# Altium schematic symbol library HDR_1X3_BB.SchLib: 1 symbol
Pins are listed as number, name and electrical type; pins without a type are passive.

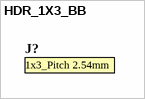
[diagram p0: symbol HDR_1X3_BB]

## HDR_1X3_BB
designator J?  (value not drawn)  (mechanical)
1 alternate drawing of the same symbol
text: 1x3_Pitch 2.54mm